# EAGLE library part UBLOX_MAX-8 (library bschulz_Old)
UBLOX MAX-8 GPS module
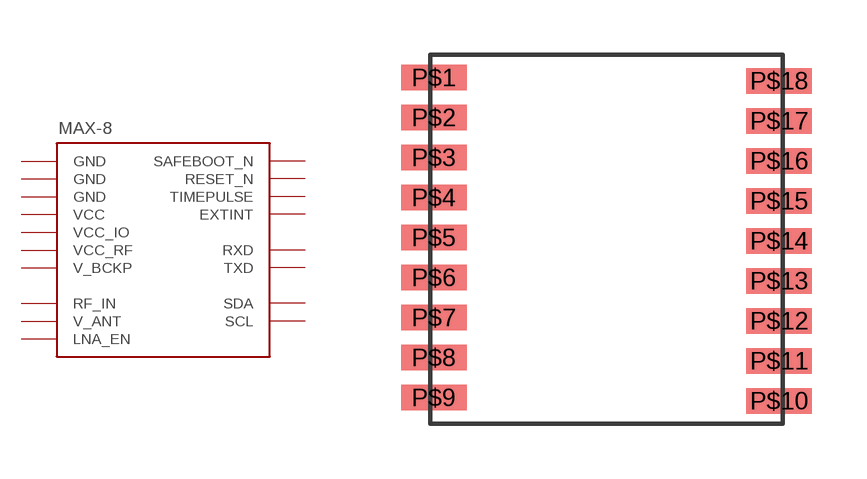
[diagram p0: symbol with the pads of MAX-8; footprint MAX-8]

Designator prefix -

## UBLOX_MAX-8  [MAX-8]
P$1  GND  pwr
P$2  TXD  out
P$3  RXD  in
P$4  TIMEPULSE
P$5  EXTINT
P$6  V_BCKP  pwr
P$7  VCC_IO  pwr
P$8  VCC  pwr
P$9  RESET_N
P$10  GND  pwr
P$11  RF_IN  in
P$12  GND  pwr
P$13  LNA_EN  in
P$14  VCC_RF  pwr
P$15  V_ANT  in
P$16  SDA
P$17  SCL
P$18  SAFEBOOT_N

## Footprint MAX-8 (pad centres in mm)
smd 1.8 x 0.7: P$1 -4.75,4.445; P$2 -4.75,3.345; P$3 -4.75,2.245; P$4 -4.75,1.145; P$5 -4.75,0.045; P$6 -4.75,-1.055; P$7 -4.75,-2.155; P$8 -4.75,-3.255; P$9 -4.75,-4.355; P$10 4.75,-4.445; P$11 4.75,-3.345; P$12 4.75,-2.245; P$13 4.75,-1.145; P$14 4.75,-0.045; P$15 4.75,1.055; P$16 4.75,2.155; P$17 4.75,3.255; P$18 4.75,4.355